# Altium integrated library uln-udn.IntLib: 43 symbols
Pins are listed as number, name and electrical type; pins without a type are passive.

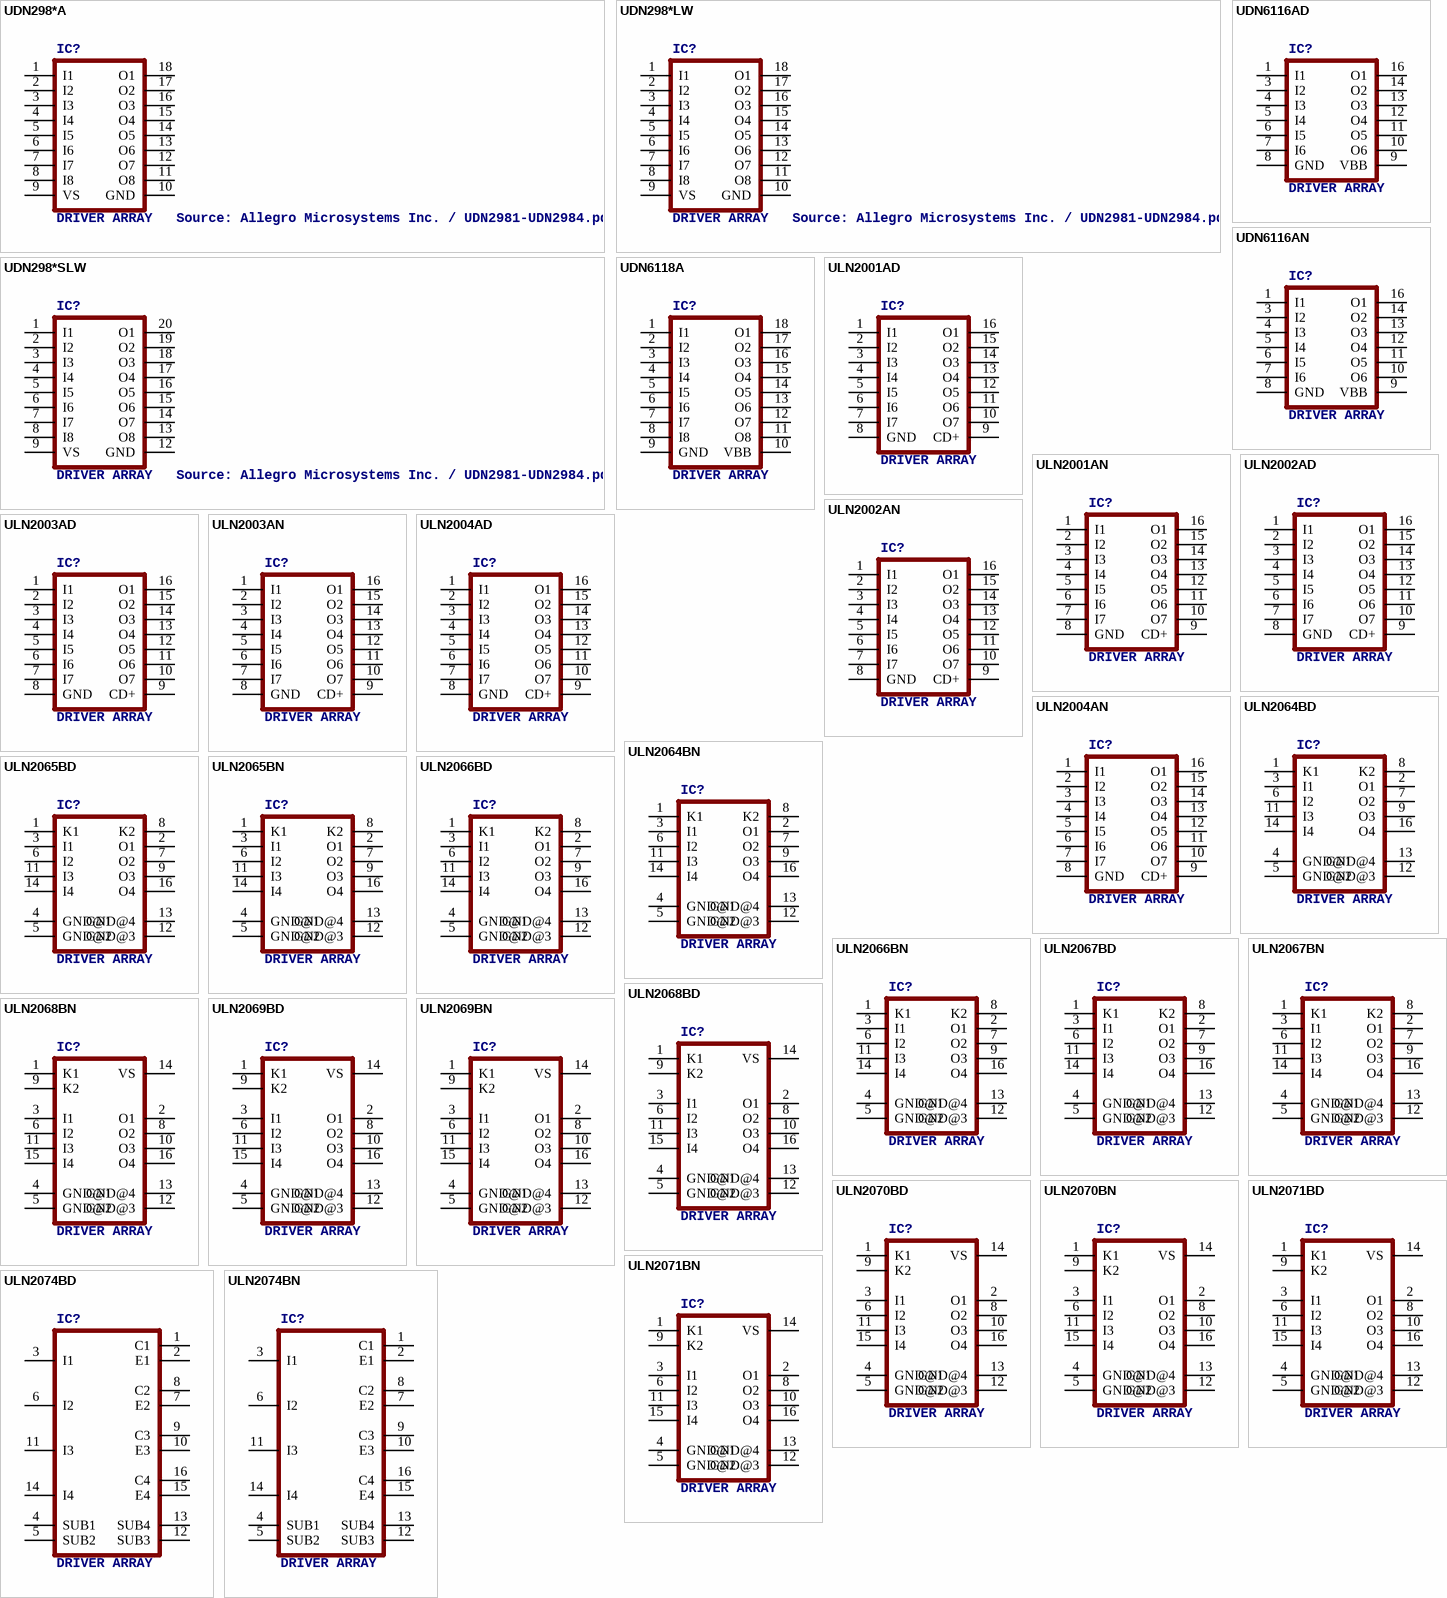
[diagram p0: symbols UDN298*A to ULN2074BN]

## UDN298*A
designator IC?, comment DRIVER ARRAY   Source: Allegro Microsystems Inc. / UDN2981-UDN2984.pdf
footprint DIL18
pins: 1 I1, 2 I2, 3 I3, 4 I4, 5 I5, 6 I6, 7 I7, 8 I8, 9 VS, 10 GND (power), 11 O8 (oc), 12 O7 (oc), 13 O6 (oc), 14 O5 (oc), 15 O4 (oc), 16 O3 (oc), 17 O2 (oc), 18 O1 (oc)

## UDN298*LW
designator IC?, comment DRIVER ARRAY   Source: Allegro Microsystems Inc. / UDN2981-UDN2984.pdf
footprint SO18W
pins: 1 I1, 2 I2, 3 I3, 4 I4, 5 I5, 6 I6, 7 I7, 8 I8, 9 VS, 10 GND (power), 11 O8 (oc), 12 O7 (oc), 13 O6 (oc), 14 O5 (oc), 15 O4 (oc), 16 O3 (oc), 17 O2 (oc), 18 O1 (oc)

## UDN298*SLW
designator IC?, comment DRIVER ARRAY   Source: Allegro Microsystems Inc. / UDN2981-UDN2984.pdf
footprint SO20W
pins: 1 I1, 2 I2, 3 I3, 4 I4, 5 I5, 6 I6, 7 I7, 8 I8, 9 VS, 12 GND (power), 13 O8 (oc), 14 O7 (oc), 15 O6 (oc), 16 O5 (oc), 17 O4 (oc), 18 O3 (oc), 19 O2 (oc), 20 O1 (oc)

## UDN6116AD
designator IC?, comment DRIVER ARRAY
footprint SO16
pins: 1 I1, 3 I2, 4 I3, 5 I4, 6 I5, 7 I6, 8 GND (power), 9 VBB, 10 O6 (oc), 11 O5 (oc), 12 O4 (oc), 13 O3 (oc), 14 O2 (oc), 16 O1 (oc)

## UDN6116AN
designator IC?, comment DRIVER ARRAY
footprint DIL16
pins: 1 I1, 3 I2, 4 I3, 5 I4, 6 I5, 7 I6, 8 GND (power), 9 VBB, 10 O6 (oc), 11 O5 (oc), 12 O4 (oc), 13 O3 (oc), 14 O2 (oc), 16 O1 (oc)

## UDN6118A
designator IC?, comment DRIVER ARRAY
footprint DIL18
pins: 1 I1, 2 I2, 3 I3, 4 I4, 5 I5, 6 I6, 7 I7, 8 I8, 9 GND (power), 10 VBB, 11 O8 (oc), 12 O7 (oc), 13 O6 (oc), 14 O5 (oc), 15 O4 (oc), 16 O3 (oc), 17 O2 (oc), 18 O1 (oc)

## ULN2001AD
designator IC?, comment DRIVER ARRAY
footprint SO16
pins: 1 I1, 2 I2, 3 I3, 4 I4, 5 I5, 6 I6, 7 I7, 8 GND (power), 9 CD+, 10 O7 (oc), 11 O6 (oc), 12 O5 (oc), 13 O4 (oc), 14 O3 (oc), 15 O2 (oc), 16 O1 (oc)

## ULN2001AN
designator IC?, comment DRIVER ARRAY
footprint DIL16
pins: 1 I1, 2 I2, 3 I3, 4 I4, 5 I5, 6 I6, 7 I7, 8 GND (power), 9 CD+, 10 O7 (oc), 11 O6 (oc), 12 O5 (oc), 13 O4 (oc), 14 O3 (oc), 15 O2 (oc), 16 O1 (oc)

## ULN2002AD
designator IC?, comment DRIVER ARRAY
footprint SO16
pins: 1 I1, 2 I2, 3 I3, 4 I4, 5 I5, 6 I6, 7 I7, 8 GND (power), 9 CD+, 10 O7 (oc), 11 O6 (oc), 12 O5 (oc), 13 O4 (oc), 14 O3 (oc), 15 O2 (oc), 16 O1 (oc)

## ULN2002AN
designator IC?, comment DRIVER ARRAY
footprint DIL16
pins: 1 I1, 2 I2, 3 I3, 4 I4, 5 I5, 6 I6, 7 I7, 8 GND (power), 9 CD+, 10 O7 (oc), 11 O6 (oc), 12 O5 (oc), 13 O4 (oc), 14 O3 (oc), 15 O2 (oc), 16 O1 (oc)

## ULN2003AD
designator IC?, comment DRIVER ARRAY
footprint SO16
pins: 1 I1, 2 I2, 3 I3, 4 I4, 5 I5, 6 I6, 7 I7, 8 GND (power), 9 CD+, 10 O7 (oc), 11 O6 (oc), 12 O5 (oc), 13 O4 (oc), 14 O3 (oc), 15 O2 (oc), 16 O1 (oc)

## ULN2003AN
designator IC?, comment DRIVER ARRAY
footprint DIL16
pins: 1 I1, 2 I2, 3 I3, 4 I4, 5 I5, 6 I6, 7 I7, 8 GND (power), 9 CD+, 10 O7 (oc), 11 O6 (oc), 12 O5 (oc), 13 O4 (oc), 14 O3 (oc), 15 O2 (oc), 16 O1 (oc)

## ULN2004AD
designator IC?, comment DRIVER ARRAY
footprint SO16
pins: 1 I1, 2 I2, 3 I3, 4 I4, 5 I5, 6 I6, 7 I7, 8 GND (power), 9 CD+, 10 O7 (oc), 11 O6 (oc), 12 O5 (oc), 13 O4 (oc), 14 O3 (oc), 15 O2 (oc), 16 O1 (oc)

## ULN2004AN
designator IC?, comment DRIVER ARRAY
footprint DIL16
pins: 1 I1, 2 I2, 3 I3, 4 I4, 5 I5, 6 I6, 7 I7, 8 GND (power), 9 CD+, 10 O7 (oc), 11 O6 (oc), 12 O5 (oc), 13 O4 (oc), 14 O3 (oc), 15 O2 (oc), 16 O1 (oc)

## ULN2064BD
designator IC?, comment DRIVER ARRAY
footprint SO16
pins: 1 K1, 2 O1 (oc), 3 I1, 4 GND@1 (power), 5 GND@2 (power), 6 I2, 7 O2 (oc), 8 K2, 9 O3 (oc), 11 I3, 12 GND@3 (power), 13 GND@4 (power), 14 I4, 16 O4 (oc)

## ULN2064BN
designator IC?, comment DRIVER ARRAY
footprint DIL16
pins: 1 K1, 2 O1 (oc), 3 I1, 4 GND@1 (power), 5 GND@2 (power), 6 I2, 7 O2 (oc), 8 K2, 9 O3 (oc), 11 I3, 12 GND@3 (power), 13 GND@4 (power), 14 I4, 16 O4 (oc)

## ULN2065BD
designator IC?, comment DRIVER ARRAY
footprint SO16
pins: 1 K1, 2 O1 (oc), 3 I1, 4 GND@1 (power), 5 GND@2 (power), 6 I2, 7 O2 (oc), 8 K2, 9 O3 (oc), 11 I3, 12 GND@3 (power), 13 GND@4 (power), 14 I4, 16 O4 (oc)

## ULN2065BN
designator IC?, comment DRIVER ARRAY
footprint DIL16
pins: 1 K1, 2 O1 (oc), 3 I1, 4 GND@1 (power), 5 GND@2 (power), 6 I2, 7 O2 (oc), 8 K2, 9 O3 (oc), 11 I3, 12 GND@3 (power), 13 GND@4 (power), 14 I4, 16 O4 (oc)

## ULN2066BD
designator IC?, comment DRIVER ARRAY
footprint SO16
pins: 1 K1, 2 O1 (oc), 3 I1, 4 GND@1 (power), 5 GND@2 (power), 6 I2, 7 O2 (oc), 8 K2, 9 O3 (oc), 11 I3, 12 GND@3 (power), 13 GND@4 (power), 14 I4, 16 O4 (oc)

## ULN2066BN
designator IC?, comment DRIVER ARRAY
footprint DIL16
pins: 1 K1, 2 O1 (oc), 3 I1, 4 GND@1 (power), 5 GND@2 (power), 6 I2, 7 O2 (oc), 8 K2, 9 O3 (oc), 11 I3, 12 GND@3 (power), 13 GND@4 (power), 14 I4, 16 O4 (oc)

## ULN2067BD
designator IC?, comment DRIVER ARRAY
footprint SO16
pins: 1 K1, 2 O1 (oc), 3 I1, 4 GND@1 (power), 5 GND@2 (power), 6 I2, 7 O2 (oc), 8 K2, 9 O3 (oc), 11 I3, 12 GND@3 (power), 13 GND@4 (power), 14 I4, 16 O4 (oc)

## ULN2067BN
designator IC?, comment DRIVER ARRAY
footprint DIL16
pins: 1 K1, 2 O1 (oc), 3 I1, 4 GND@1 (power), 5 GND@2 (power), 6 I2, 7 O2 (oc), 8 K2, 9 O3 (oc), 11 I3, 12 GND@3 (power), 13 GND@4 (power), 14 I4, 16 O4 (oc)

## ULN2068BD
designator IC?, comment DRIVER ARRAY
footprint SO16
pins: 1 K1, 2 O1 (oc), 3 I1, 4 GND@1 (power), 5 GND@2 (power), 6 I2, 8 O2 (oc), 9 K2, 10 O3 (oc), 11 I3, 12 GND@3 (power), 13 GND@4 (power), 14 VS (power), 15 I4, 16 O4 (oc)

## ULN2068BN
designator IC?, comment DRIVER ARRAY
footprint DIL16
pins: 1 K1, 2 O1 (oc), 3 I1, 4 GND@1 (power), 5 GND@2 (power), 6 I2, 8 O2 (oc), 9 K2, 10 O3 (oc), 11 I3, 12 GND@3 (power), 13 GND@4 (power), 14 VS (power), 15 I4, 16 O4 (oc)

## ULN2069BD
designator IC?, comment DRIVER ARRAY
footprint SO16
pins: 1 K1, 2 O1 (oc), 3 I1, 4 GND@1 (power), 5 GND@2 (power), 6 I2, 8 O2 (oc), 9 K2, 10 O3 (oc), 11 I3, 12 GND@3 (power), 13 GND@4 (power), 14 VS (power), 15 I4, 16 O4 (oc)

## ULN2069BN
designator IC?, comment DRIVER ARRAY
footprint DIL16
pins: 1 K1, 2 O1 (oc), 3 I1, 4 GND@1 (power), 5 GND@2 (power), 6 I2, 8 O2 (oc), 9 K2, 10 O3 (oc), 11 I3, 12 GND@3 (power), 13 GND@4 (power), 14 VS (power), 15 I4, 16 O4 (oc)

## ULN2070BD
designator IC?, comment DRIVER ARRAY
footprint SO16
pins: 1 K1, 2 O1 (oc), 3 I1, 4 GND@1 (power), 5 GND@2 (power), 6 I2, 8 O2 (oc), 9 K2, 10 O3 (oc), 11 I3, 12 GND@3 (power), 13 GND@4 (power), 14 VS (power), 15 I4, 16 O4 (oc)

## ULN2070BN
designator IC?, comment DRIVER ARRAY
footprint DIL16
pins: 1 K1, 2 O1 (oc), 3 I1, 4 GND@1 (power), 5 GND@2 (power), 6 I2, 8 O2 (oc), 9 K2, 10 O3 (oc), 11 I3, 12 GND@3 (power), 13 GND@4 (power), 14 VS (power), 15 I4, 16 O4 (oc)

## ULN2071BD
designator IC?, comment DRIVER ARRAY
footprint SO16
pins: 1 K1, 2 O1 (oc), 3 I1, 4 GND@1 (power), 5 GND@2 (power), 6 I2, 8 O2 (oc), 9 K2, 10 O3 (oc), 11 I3, 12 GND@3 (power), 13 GND@4 (power), 14 VS (power), 15 I4, 16 O4 (oc)

## ULN2071BN
designator IC?, comment DRIVER ARRAY
footprint DIL16
pins: 1 K1, 2 O1 (oc), 3 I1, 4 GND@1 (power), 5 GND@2 (power), 6 I2, 8 O2 (oc), 9 K2, 10 O3 (oc), 11 I3, 12 GND@3 (power), 13 GND@4 (power), 14 VS (power), 15 I4, 16 O4 (oc)

## ULN2074BD
designator IC?, comment DRIVER ARRAY
footprint SO16
pins: 1 C1 (oc), 2 E1 (oc), 3 I1, 4 SUB1, 5 SUB2, 6 I2, 7 E2 (oc), 8 C2 (oc), 9 C3 (oc), 10 E3 (oc), 11 I3, 12 SUB3, 13 SUB4, 14 I4, 15 E4 (oc), 16 C4 (oc)

## ULN2074BN
designator IC?, comment DRIVER ARRAY
footprint DIL16
pins: 1 C1 (oc), 2 E1 (oc), 3 I1, 4 SUB1, 5 SUB2, 6 I2, 7 E2 (oc), 8 C2 (oc), 9 C3 (oc), 10 E3 (oc), 11 I3, 12 SUB3, 13 SUB4, 14 I4, 15 E4 (oc), 16 C4 (oc)

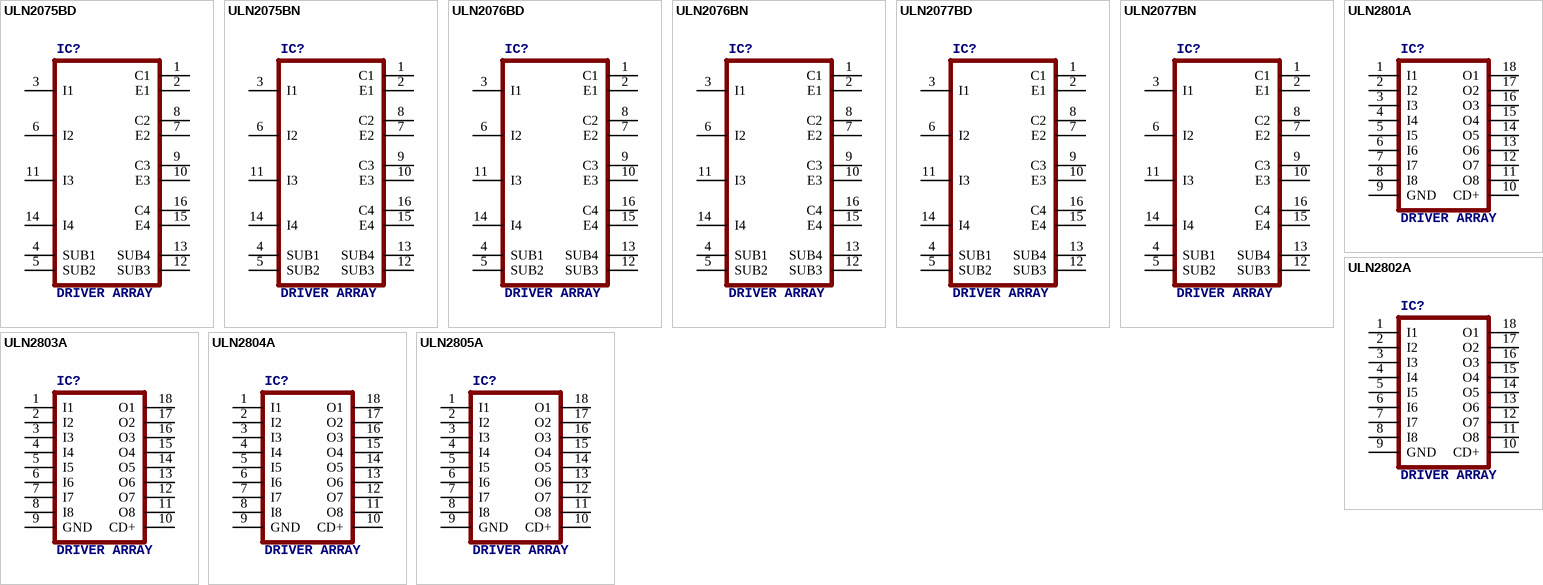
[diagram p1: symbols ULN2075BD to ULN2805A]

## ULN2075BD
designator IC?, comment DRIVER ARRAY
footprint SO16
pins: 1 C1 (oc), 2 E1 (oc), 3 I1, 4 SUB1, 5 SUB2, 6 I2, 7 E2 (oc), 8 C2 (oc), 9 C3 (oc), 10 E3 (oc), 11 I3, 12 SUB3, 13 SUB4, 14 I4, 15 E4 (oc), 16 C4 (oc)

## ULN2075BN
designator IC?, comment DRIVER ARRAY
footprint DIL16
pins: 1 C1 (oc), 2 E1 (oc), 3 I1, 4 SUB1, 5 SUB2, 6 I2, 7 E2 (oc), 8 C2 (oc), 9 C3 (oc), 10 E3 (oc), 11 I3, 12 SUB3, 13 SUB4, 14 I4, 15 E4 (oc), 16 C4 (oc)

## ULN2076BD
designator IC?, comment DRIVER ARRAY
footprint SO16
pins: 1 C1 (oc), 2 E1 (oc), 3 I1, 4 SUB1, 5 SUB2, 6 I2, 7 E2 (oc), 8 C2 (oc), 9 C3 (oc), 10 E3 (oc), 11 I3, 12 SUB3, 13 SUB4, 14 I4, 15 E4 (oc), 16 C4 (oc)

## ULN2076BN
designator IC?, comment DRIVER ARRAY
footprint DIL16
pins: 1 C1 (oc), 2 E1 (oc), 3 I1, 4 SUB1, 5 SUB2, 6 I2, 7 E2 (oc), 8 C2 (oc), 9 C3 (oc), 10 E3 (oc), 11 I3, 12 SUB3, 13 SUB4, 14 I4, 15 E4 (oc), 16 C4 (oc)

## ULN2077BD
designator IC?, comment DRIVER ARRAY
footprint SO16
pins: 1 C1 (oc), 2 E1 (oc), 3 I1, 4 SUB1, 5 SUB2, 6 I2, 7 E2 (oc), 8 C2 (oc), 9 C3 (oc), 10 E3 (oc), 11 I3, 12 SUB3, 13 SUB4, 14 I4, 15 E4 (oc), 16 C4 (oc)

## ULN2077BN
designator IC?, comment DRIVER ARRAY
footprint DIL16
pins: 1 C1 (oc), 2 E1 (oc), 3 I1, 4 SUB1, 5 SUB2, 6 I2, 7 E2 (oc), 8 C2 (oc), 9 C3 (oc), 10 E3 (oc), 11 I3, 12 SUB3, 13 SUB4, 14 I4, 15 E4 (oc), 16 C4 (oc)

## ULN2801A
designator IC?, comment DRIVER ARRAY
footprint DIL18
pins: 1 I1, 2 I2, 3 I3, 4 I4, 5 I5, 6 I6, 7 I7, 8 I8, 9 GND (power), 10 CD+, 11 O8 (oc), 12 O7 (oc), 13 O6 (oc), 14 O5 (oc), 15 O4 (oc), 16 O3 (oc), 17 O2 (oc), 18 O1 (oc)

## ULN2802A
designator IC?, comment DRIVER ARRAY
footprint DIL18
pins: 1 I1, 2 I2, 3 I3, 4 I4, 5 I5, 6 I6, 7 I7, 8 I8, 9 GND (power), 10 CD+, 11 O8 (oc), 12 O7 (oc), 13 O6 (oc), 14 O5 (oc), 15 O4 (oc), 16 O3 (oc), 17 O2 (oc), 18 O1 (oc)

## ULN2803A
designator IC?, comment DRIVER ARRAY
footprint DIL18
pins: 1 I1, 2 I2, 3 I3, 4 I4, 5 I5, 6 I6, 7 I7, 8 I8, 9 GND (power), 10 CD+, 11 O8 (oc), 12 O7 (oc), 13 O6 (oc), 14 O5 (oc), 15 O4 (oc), 16 O3 (oc), 17 O2 (oc), 18 O1 (oc)

## ULN2804A
designator IC?, comment DRIVER ARRAY
footprint DIL18
pins: 1 I1, 2 I2, 3 I3, 4 I4, 5 I5, 6 I6, 7 I7, 8 I8, 9 GND (power), 10 CD+, 11 O8 (oc), 12 O7 (oc), 13 O6 (oc), 14 O5 (oc), 15 O4 (oc), 16 O3 (oc), 17 O2 (oc), 18 O1 (oc)

## ULN2805A
designator IC?, comment DRIVER ARRAY
footprint DIL18
pins: 1 I1, 2 I2, 3 I3, 4 I4, 5 I5, 6 I6, 7 I7, 8 I8, 9 GND (power), 10 CD+, 11 O8 (oc), 12 O7 (oc), 13 O6 (oc), 14 O5 (oc), 15 O4 (oc), 16 O3 (oc), 17 O2 (oc), 18 O1 (oc)